# Altium footprint library LCD_5_PIN.PcbLib: 2 footprints
Each footprint in its own frame and in the unit in brackets; x right, y up, seen from the top. Pads: shape width x height; smd on the part's side, far side on the other; paste and mask are expansions set on the pad; w line width, h text height; cw(c..) or ccw(c..) is an arc to the next point about the centre after c.
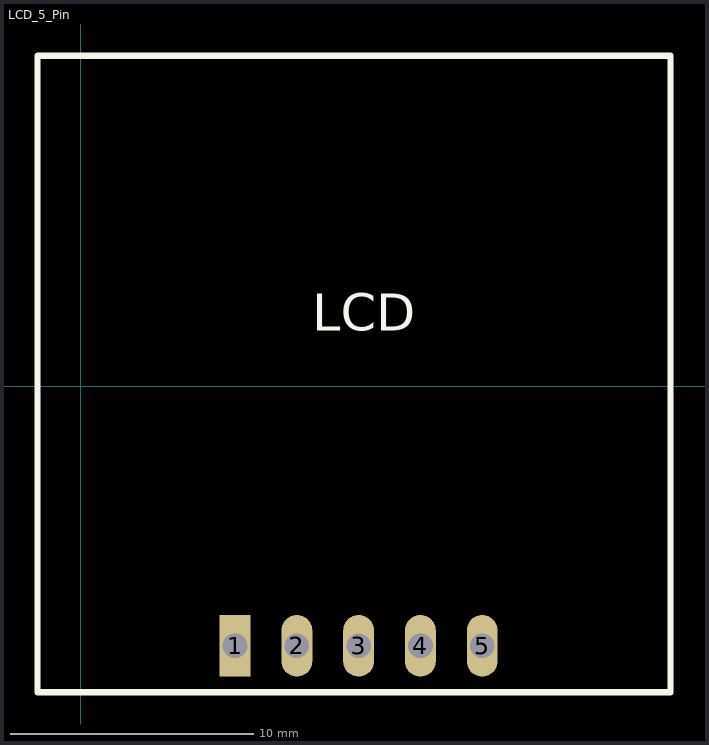
[diagram p0: the footprints below, top view; thin cyan lines are the x and y axes]

## LCD_5_Pin [mil]
pads (5):
  rect 50x100 hole 40: 1(250,-420)
  oval 50x100 hole 40: 2(350,-420) 3(450,-420) 4(550,-420) 5(650,-420)
Top Overlay:
  lines w10: -70,-495 955,-495 955,535 -70,535 -70,-495
  text "LCD" at 375,90 h60

## PCBComponent_1 [mil]